# Altium footprint library PcbLib1_of_zj.PcbLib: 39 footprints (part 1 of 3)
Each footprint in its own frame and in the unit in brackets; x right, y up, seen from the top. Pads: shape width x height; smd on the part's side, far side on the other; paste and mask are expansions set on the pad; w line width, h text height; cw(c..) or ccw(c..) is an arc to the next point about the centre after c.
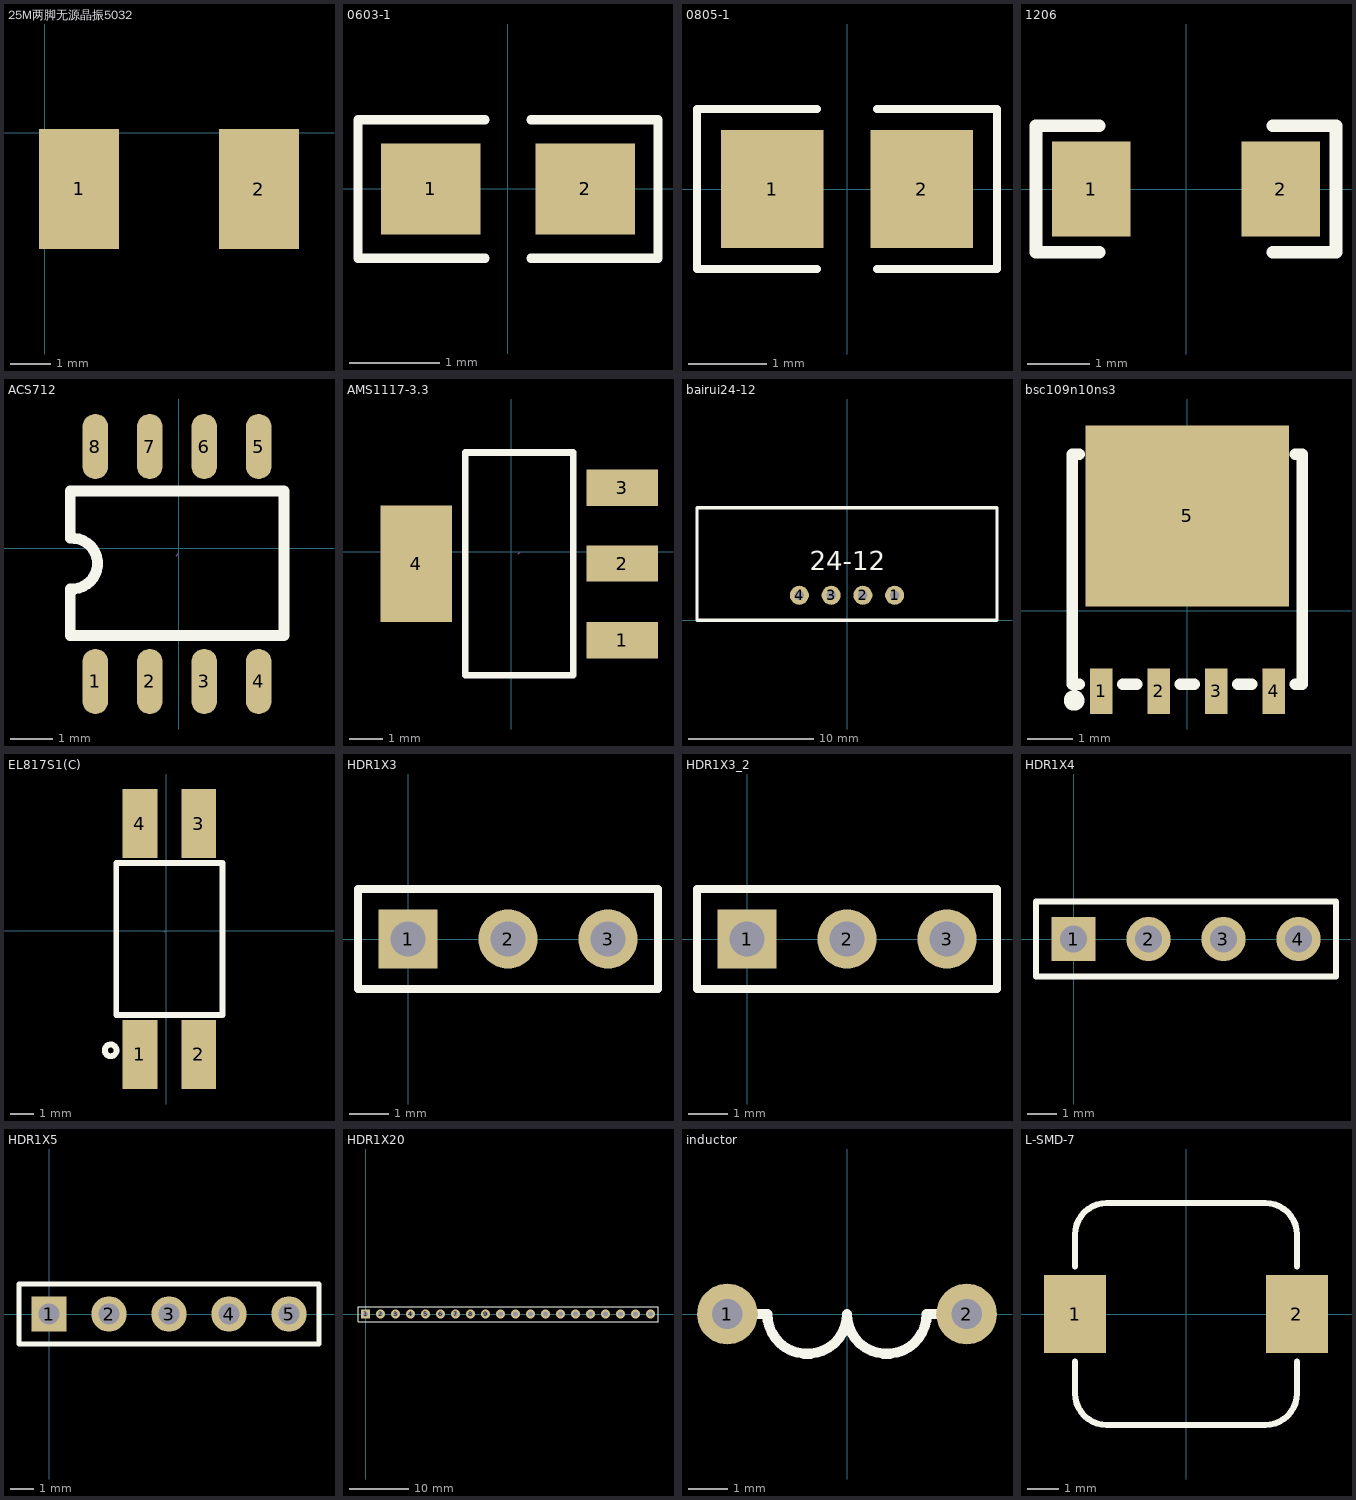
[diagram p0: the footprints below, top view; thin cyan lines are the x and y axes]

## 25M两脚无源晶振5032 [mm]
pads (2):
  rect 2x3 smd: 1(0.855,-1.396) 2(5.34,-1.4)
3D body: height 0.51, standoff 0.05, extent -0.127,-2.921 6.35,0.127

## 0603-1 [mm]
pads (2):
  rect 1.1x1 smd: 1(-0.85,0) 2(0.85,0)
Top Overlay:
  lines w0.1: -0.254,-0.762 -1.651,-0.762 -1.651,0.762 -0.254,0.762 ; 0.254,-0.762 1.651,-0.762 1.651,0.762 0.254,0.762
3D body: height 1, standoff 0, extent -1.143,-0.381 1.143,0.381

## 0805-1 [mm] "贴片带丝印"
height 1.1
pads (2):
  rect 1.3x1.5 smd: 1(-0.95,0) 2(0.95,0)
Top Overlay:
  lines w0.1: -0.381,-1.016 -1.905,-1.016 -1.905,1.016 -0.381,1.016 ; 0.381,-1.016 1.905,-1.016 1.905,1.016 0.381,1.016
3D body: height 0.99, standoff 0, extent -1.016,-0.508 1.016,0.508
3D body: height 1, standoff 0, extent 1.016,-0.508 1.143,0.508
3D body: height 1, standoff 0, extent -1.143,-0.508 -1.016,0.508

## 1206 [mil]
pads (2):
  rect 50x60 smd: 1(-60,0) 2(60,0)
Top Overlay:
  lines w7.87: -95,-40 -55,-40 ; -95,40 -55,40 ; 55,-40 95,-40 ; 55,40 95,40
  lines w8: -95,-40 -95,40 ; 95,-40 95,40

## ACS712 [mm]
pads (8):
  oval 0.6x1.518 smd: 1(-1.946,-3.113) 2(-0.676,-3.113) 3(0.594,-3.113) 4(1.864,-3.113) 5(1.864,2.367) 6(0.594,2.367) 7(-0.676,2.367) 8(-1.946,2.367)
Top Overlay:
  lines w0.254: -2.531,-2.044 -2.531,-0.953 ccw(c-2.486,-0.363) -2.531,0.227 -2.531,1.327 2.459,1.327 2.459,-2.044 -2.531,-2.044
Mechanical 15:
  lines w0.003: -0.061,-0.186 -0.011,-0.135
3D body "User Library-sop8_model.STEP": height 1.5, standoff -0.06, extent -2.489,-3.416 2.411,2.564

## AMS1117-3.3 [mil]
pads (4):
  rect 85x43 smd: 1(131.5,-104.85) 2(131.5,-13.85) 3(131.5,76.15)
  rect 85x138 smd: 4(-112.5,-13.85)
Top Overlay:
  lines w7.9: -54.3,-146.05 -54.3,117.75 73.6,117.75 73.6,-146.05 -54.3,-146.05
Mechanical 15:
  lines w0.1: 8.5,-2.17 10.5,-0.17
3D body "User Library-AMS1117-1.STEP": height 70.87, standoff -2.41, extent -122.05,-143.8 153.54,112.31

## bairui24-12 [mil]
pads (4):
  round 60 hole 30: 1(150,78.74) 2(50,78.74) 3(-50,78.74) 4(-150,78.74)
Top Overlay:
  lines w10: -472.44,0 -472.44,354.33 0,354.33 472.44,354.33 472.44,0 0,0 -472.44,0
  text "24-12" at -118.11,157.48 h60
3D body "24-12.STEP": height 694.88, standoff -190.94, extent -464.57,0 460.63,334.65

## bsc109n10ns3 [mm]
pads (6):
  rect 0.498x1.001 smd: 1(-1.905,-1.775) 2(-0.635,-1.775) 3(0.635,-1.775) 4(1.905,-1.775)
  rect 4.5x4 smd: 5(0,2.1)
  round 0 smd: 5(0,1.775)
Top Overlay:
  circle w0.254: c-2.5,-1.975 r0.1
  lines w0.254: -2.385,-1.615 -2.54,-1.615 -2.54,3.465 -2.385,3.465 ; -1.425,-1.615 -1.115,-1.615 ; -0.155,-1.615 0.155,-1.615 ; 1.115,-1.615 1.425,-1.615 ; 2.385,-1.615 2.54,-1.615 2.54,3.465 2.385,3.465
3D body "User Library-son_1p27-6x5x1p10-5_8n.STEP": height 1.1, standoff 0, extent -2.575,-1.975 2.575,4.175

## EL817S1(C) [mm]
pads (4):
  rect 1.5x3 smd: 1(-1.143,-5.358) 2(1.397,-5.358) 3(1.397,4.642) 4(-1.143,4.642)
Top Overlay:
  circle w0.254: c-2.413,-5.184 r0.254
  lines w0.254: -2.173,-3.658 -2.173,2.942 2.427,2.942 2.427,-3.658 -2.173,-3.658
Mechanical 15:
  lines w0.003: -0.082,-0.046 -0.031,0.005

## HDR1X3 [mm]
pads (3):
  rect 1.5x1.5 hole 0.9: 1(0,0)
  round 1.5 hole 0.9: 2(2.54,0) 3(5.08,0)
Top Overlay:
  lines w0.2: -1.27,-1.27 -1.27,1.27 6.35,1.27 6.35,-1.27 -1.27,-1.27

## HDR1X3_2 [mm]
pads (3):
  rect 1.5x1.5 hole 0.9: 1(0,0)
  round 1.5 hole 0.9: 2(2.54,0) 3(5.08,0)
Top Overlay:
  lines w0.2: -1.27,-1.27 -1.27,1.27 6.35,1.27 6.35,-1.27 -1.27,-1.27

## HDR1X4 [mm]
pads (4):
  rect 1.5x1.5 hole 0.9: 1(0,0)
  round 1.5 hole 0.9: 2(2.54,0) 3(5.08,0) 4(7.62,0)
Top Overlay:
  lines w0.2: -1.27,-1.27 8.89,-1.27 8.89,1.27 -1.27,1.27 -1.27,-1.27

## HDR1X5 [mm] "Connector; Header; 5 Position"
pads (5):
  rect 1.5x1.5 hole 0.9: 1(0,0)
  round 1.5 hole 0.9: 2(2.54,0) 3(5.08,0) 4(7.62,0) 5(10.16,0)
Top Overlay:
  lines w0.2: -1.27,-1.27 11.43,-1.27 11.43,1.27 -1.27,1.27 -1.27,-1.27

## HDR1X20 [mm] "Connector; Header; 20 Position"
pads (20):
  rect 1.5x1.5 hole 0.9: 1(0,0)
  round 1.5 hole 0.9: 2(2.54,0) 3(5.08,0) 4(7.62,0) 5(10.16,0) 6(12.7,0) 7(15.24,0) 8(17.78,0) 9(20.32,0) 10(22.86,0) 11(25.4,0) 12(27.94,0) 13(30.48,0) 14(33.02,0) 15(35.56,0) 16(38.1,0) 17(40.64,0) 18(43.18,0) 19(45.72,0) 20(48.26,0)
Top Overlay:
  lines w0.2: -1.27,-1.27 -1.27,1.27 0.635,1.27 49.53,1.27 49.53,-1.27 -1.27,-1.27

## inductor [mil]
pads (2):
  round 60 hole 30: 1(-118.11,0) 2(118.11,0)
Top Overlay:
  lines w10: -118.11,0 -78.74,0 ccw(c-39.37,0) 0,0 ccw(c39.37,0) 78.74,0 118.11,0
3D body "零件1.STEP": height 531.5, standoff -141.73, extent -122.4,-259.83 113.63,251.97

## L-SMD-7 [mm] "贴片电感7*7"
pads (2):
  rect 2x2.5 smd: 1(-3.556,0) 2(3.556,0)
Top Overlay:
  lines w0.2: -3.556,-1.524 -3.556,-2.54 ccw(c-2.54,-2.54) -2.54,-3.556 2.54,-3.556 ccw(c2.54,-2.54) 3.556,-2.54 3.556,-1.524 ; -3.556,1.524 -3.556,2.54 cw(c-2.54,2.54) -2.54,3.556 2.54,3.556 cw(c2.54,2.54) 3.556,2.54 3.556,1.524
3D body: height 4, standoff 0, extent -3.556,-3.556 3.556,3.556